# EAGLE library part LIS302DL_BREAKOUT (library john)
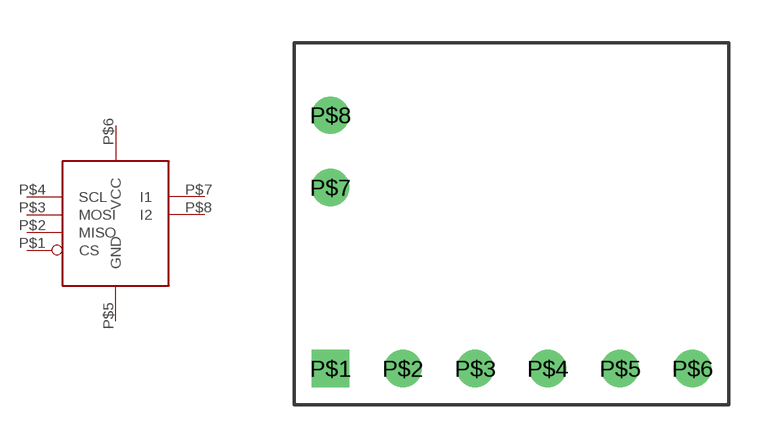
[diagram p6: symbol with the pads of LIS302DL_BREAKOUT; footprint LIS302DL_BREAKOUT]

Designator prefix -

## LIS302DL_BREAKOUT  [LIS302DL_BREAKOUT]
P$1  CS
P$2  MISO  out
P$3  MOSI  in
P$4  SCL  in
P$5  GND  pwr
P$6  VCC  pwr
P$7  I1  out
P$8  I2  out

## Footprint LIS302DL_BREAKOUT (pad centres in mm)
drill 0.8 square: P$1 0,0
drill 0.8 round: P$2 2.54,0; P$3 5.08,0; P$4 7.62,0; P$5 10.16,0; P$6 12.7,0; P$7 0,6.35; P$8 0,8.89